# Altium schematic symbol library RT0603BRE07475RL.SchLib: 8 symbols
Pins are listed as number, name and electrical type; pins without a type are passive.

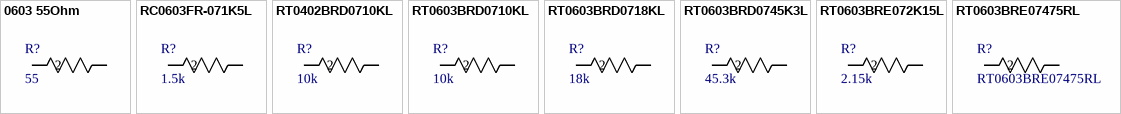
[diagram p0: symbols 0603 55Ohm to RT0603BRE07475RL]

## 0603 55Ohm
designator R?, comment 55
55 OHM 0.1% 1/10W 0603; Manufacturer_Name: Yageo; Manufacturer_Part_Number: 0603 55Ohm; Copyright: Copyright (C) 2026 Ultra Librarian. All rights reserved.
footprint RC0603N_YAG
pins: 1, 2

## RC0603FR-071K5L
designator R?, comment 1.5k
1.5K OHM 1% 1/10W 0603; Manufacturer_Name: Yageo; Manufacturer_Part_Number: RC0603FR-071K5L; Copyright: Copyright (C) 2026 Ultra Librarian. All rights reserved.
footprint RC0603N_YAG
pins: 1, 2

## RT0402BRD0710KL
designator R?, comment 10k
10K OHM 0.1% 1/10W 0402; Manufacturer_Name: Yageo; Manufacturer_Part_Number: RT0402BRD0710KL; Copyright: Copyright (C) 2026 Ultra Librarian. All rights reserved.
footprint RESC1005X35N
pins: 1, 2

## RT0603BRD0710KL
designator R?, comment 10k
10K OHM 0.1% 1/10W 0603; Manufacturer_Name: Yageo; Manufacturer_Part_Number: RT0603BRD0710KL; Copyright: Copyright (C) 2026 Ultra Librarian. All rights reserved.
footprint RC0603N_YAG
pins: 1, 2

## RT0603BRD0718KL
designator R?, comment 18k
18K OHM 0.1% 1/10W 0603; Manufacturer_Name: Yageo; Manufacturer_Part_Number: RT0603BRD0718KL; Copyright: Copyright (C) 2026 Ultra Librarian. All rights reserved.
footprint RC0603N_YAG
pins: 1, 2

## RT0603BRD0745K3L
designator R?, comment 45.3k
45.3K OHM 0.1% 1/10W 0603; Manufacturer_Name: Yageo; Manufacturer_Part_Number: RT0603BRD0745K3L; Copyright: Copyright (C) 2026 Ultra Librarian. All rights reserved.
footprint RC0603N_YAG
pins: 1, 2

## RT0603BRE072K15L
designator R?, comment 2.15k
2.15K OHM 0.1% 1/10W 0603; Manufacturer_Name: Yageo; Manufacturer_Part_Number: RT0603BRE072K15L; Copyright: Copyright (C) 2026 Ultra Librarian. All rights reserved.
footprint RC0603N_YAG
pins: 1, 2

## RT0603BRE07475RL
designator R?
475 OHM 0.1% 1/10W 0603; Manufacturer_Name: Yageo; Copyright: Copyright (C) 2026 Ultra Librarian. All rights reserved.; Manufacturer_Part_Number: RT0603BRE07475RL
footprint RC0603N_YAG
pins: 1, 2